# Altium integrated library TI Data Converters Analog to Digital Converter.IntLib: 2197 symbols (part 55 of 168)
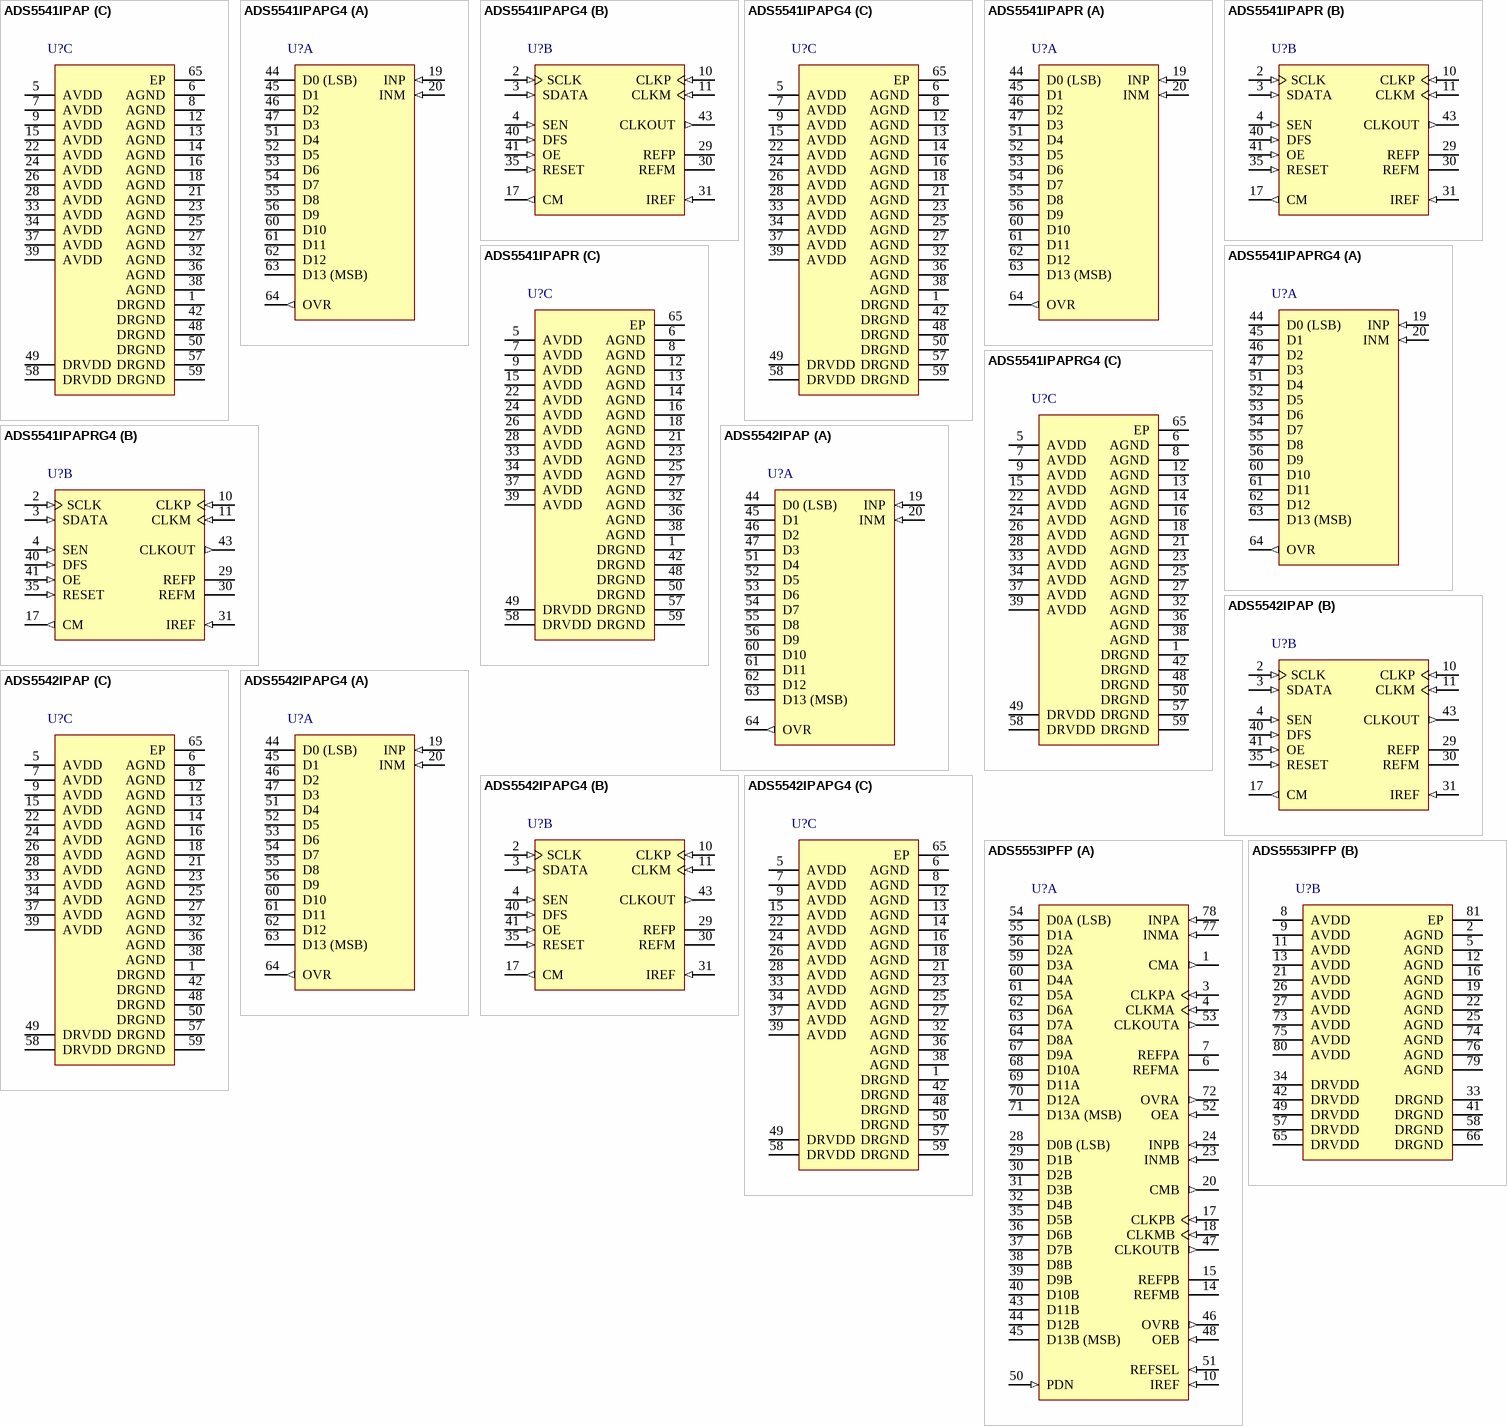
[diagram p180: symbols ADS5541IPAP to ADS5553IPFP]

## ADS5541IPAPG4
designator U?
14-Bit, 105 MSPS ADC, -40 to 85 degC, 64-pin QFP (PAP64), Green (RoHS & no Sb/Br); Manufacturer: Texas Instruments; PartNumber: ADS5541IPAPG4; # Input Channels: 1; Analog Voltage AV/DD(Max)(V): 3.6; Analog Voltage AV/DD(Min)(V): 3; Architecture: Pipeline; ENOB(Bits): 11.7; INL(Max)(+/-LSB): 5; Interface: Parallel CMOS, Serial SPI Interface; Resolution(Bits): 14; Sample Rate (max)(SPS): 105M; SFDR(dB): 86; SINAD(dB): 72; SNR(dB): 72.7; SubFamily: High Speed ADC (>10MSPS); DatasheetVersion: SBAS307C; PackageVersion: 4147702/C, 08/2003; PackageReference: PAP64-3825X3825TP; PackageDescription: 64-Pin PowerPAD(TM) Plastic Quad Flatpack, Body 10 x 10 mm, Pitch 0.5 mm; Supplier 1: Digi-Key; Supplier Part Number 1: 296-17355-2-ND; Supplier 2: Digi-Key; Supplier Part Number 2: 296-17355-1-ND; Supplier 3: Newark; Supplier Part Number 3: 43J1571; Supplier 4: Mouser; Supplier Part Number 4: 595-ADS8406IBPFBT; Digital Supply(Max)(V): 3.6; Digital Supply(Min)(V): 3; Eco-Plan: Green (RoHS & no Sb/Br); Mounting Technology: Surface Mount; Code_JEDEC: MS-026; ComponentLink1Description: Manufacturer URL; ComponentLink1URL: http://www.ti.com/; ComponentLink2Description: Datasheet; ComponentLink2URL: http://www.ti.com/general/docs/lit/getliterature.tsp?genericPartNumber=ADS5541&fileType=pdf; ComponentLink3Description: Package Specification; ComponentLink3URL: http://www.ti.com/lit/ml/mpqf071b/mpqf071b.pdf
footprint TI-PAP64-3825X3825TP_N (QFP, 64-Leads, Body 10x10mm, Pitch 0.5mm, Thermal Pad 4.15x4.15 mm, IPC Medium Density)
footprint TI-PAP64-3825X3825TP_L (QFP, 64-Leads, Body 10x10mm, Pitch 0.5mm, Thermal Pad 4.15x4.15mm, IPC High Density)
footprint TI-PAP64-3825X3825TP_M (QFP, 64-Leads, Body 10x10mm, Pitch 0.5mm, Thermal Pad 4.15x4.15mm, IPC Low Density)
part A pins: 19 INP (in) "Differential analog input (positive)", 20 INM (in) "Differential analog input (negative)", 44 D0 (LSB) (hiz) "Parallel data output", 45 D1 (hiz) "Parallel data output", 46 D2 (hiz) "Parallel data output", 47 D3 (hiz) "Parallel data output", 51 D4 (hiz) "Parallel data output", 52 D5 (hiz) "Parallel data output", 53 D6 (hiz) "Parallel data output", 54 D7 (hiz) "Parallel data output", 55 D8 (hiz) "Parallel data output", 56 D9 (hiz) "Parallel data output", 60 D10 (hiz) "Parallel data output", 61 D11 (hiz) "Parallel data output", 62 D12 (hiz) "Parallel data output", 63 D13 (MSB) (hiz) "Parallel data output", 64 OVR (out) "Over-range indicator bit"
part B pins: 2 SCLK (in) "Serial interface clock", 3 SDATA (in) "Serial interface data", 4 SEN (in) "Serial interface chip select", 10 CLKP (in) "Data converter differential input clock (positive)", 11 CLKM (in) "Data converter differential input clock (negative)", 17 CM (out) "Common-mode output voltage", 29 REFP "Reference voltage (positive); 1-uF capacitor in series with a 1-ohm resistor to GND", 30 REFM "Reference voltage (negative); 1-uF capacitor in series with a 1-ohm resistor to GND", 31 IREF (in) "Current set; 56-kohm resistor to GND; do not connect capacitors", 35 RESET (in) "Reset (active high), 200-kohm resistor to AVDD", 40 DFS (in) "Data format and clock out polarity select", 41 OE (in) "Output enable (active high)", 43 CLKOUT (out) "CMOS clock out in sync with data"
part C pins: 1 DRGND (power) "Output driver ground", 5 AVDD (power) "Analog power supply", 6 AGND (power) "Analog ground", 7 AVDD (power) "Analog power supply", 8 AGND (power) "Analog ground", 9 AVDD (power) "Analog power supply", 12 AGND (power) "Analog ground", 13 AGND (power) "Analog ground", 14 AGND (power) "Analog ground", 15 AVDD (power) "Analog power supply", 16 AGND (power) "Analog ground", 18 AGND (power) "Analog ground", 21 AGND (power) "Analog ground", 22 AVDD (power) "Analog power supply", 23 AGND (power) "Analog ground", 24 AVDD (power) "Analog power supply", 25 AGND (power) "Analog ground", 26 AVDD (power) "Analog power supply", 27 AGND (power) "Analog ground", 28 AVDD (power) "Analog power supply", 32 AGND (power) "Analog ground", 33 AVDD (power) "Analog power supply", 34 AVDD (power) "Analog power supply", 36 AGND (power) "Analog ground", 37 AVDD (power) "Analog power supply", 38 AGND (power) "Analog ground", 39 AVDD (power) "Analog power supply", 42 DRGND (power) "Output driver ground", 48 DRGND (power) "Output driver ground", 49 DRVDD (power) "Output driver power supply", 50 DRGND (power) "Output driver ground", 57 DRGND (power) "Output driver ground", 58 DRVDD (power) "Output driver power supply", 59 DRGND (power) "Output driver ground", 65 EP (power) "Connected to Analog Ground"

## ADS5541IPAPR
designator U?
14-Bit, 105 MSPS ADC, -40 to 85 degC, 64-pin QFP (PAP64), Green (RoHS & no Sb/Br); Manufacturer: Texas Instruments; PartNumber: ADS5541IPAPR; # Input Channels: 1; Analog Voltage AV/DD(Max)(V): 3.6; Analog Voltage AV/DD(Min)(V): 3; Architecture: Pipeline; ENOB(Bits): 11.7; INL(Max)(+/-LSB): 5; Interface: Parallel CMOS, Serial SPI Interface; Resolution(Bits): 14; Sample Rate (max)(SPS): 105M; SFDR(dB): 86; SINAD(dB): 72; SNR(dB): 72.7; SubFamily: High Speed ADC (>10MSPS); DatasheetVersion: SBAS307C; PackageVersion: 4147702/C, 08/2003; PackageReference: PAP64-3825X3825TP; PackageDescription: 64-Pin PowerPAD(TM) Plastic Quad Flatpack, Body 10 x 10 mm, Pitch 0.5 mm; Supplier 1: Digi-Key; Supplier Part Number 1: ADS8406IBPFBTG4-ND; Supplier 2: Newark; Supplier Part Number 2: 73K7096; Supplier 3: Mouser; Supplier Part Number 3: 595-ADS8406IBPFBTG4; Digital Supply(Max)(V): 3.6; Digital Supply(Min)(V): 3; Eco-Plan: Green (RoHS & no Sb/Br); Mounting Technology: Surface Mount; Code_JEDEC: MS-026; ComponentLink1Description: Manufacturer URL; ComponentLink1URL: http://www.ti.com/; ComponentLink2Description: Datasheet; ComponentLink2URL: http://www.ti.com/general/docs/lit/getliterature.tsp?genericPartNumber=ADS5541&fileType=pdf; ComponentLink3Description: Package Specification; ComponentLink3URL: http://www.ti.com/lit/ml/mpqf071b/mpqf071b.pdf
footprint TI-PAP64-3825X3825TP_N (QFP, 64-Leads, Body 10x10mm, Pitch 0.5mm, Thermal Pad 4.15x4.15 mm, IPC Medium Density)
footprint TI-PAP64-3825X3825TP_L (QFP, 64-Leads, Body 10x10mm, Pitch 0.5mm, Thermal Pad 4.15x4.15mm, IPC High Density)
footprint TI-PAP64-3825X3825TP_M (QFP, 64-Leads, Body 10x10mm, Pitch 0.5mm, Thermal Pad 4.15x4.15mm, IPC Low Density)
part A pins: 19 INP (in) "Differential analog input (positive)", 20 INM (in) "Differential analog input (negative)", 44 D0 (LSB) (hiz) "Parallel data output", 45 D1 (hiz) "Parallel data output", 46 D2 (hiz) "Parallel data output", 47 D3 (hiz) "Parallel data output", 51 D4 (hiz) "Parallel data output", 52 D5 (hiz) "Parallel data output", 53 D6 (hiz) "Parallel data output", 54 D7 (hiz) "Parallel data output", 55 D8 (hiz) "Parallel data output", 56 D9 (hiz) "Parallel data output", 60 D10 (hiz) "Parallel data output", 61 D11 (hiz) "Parallel data output", 62 D12 (hiz) "Parallel data output", 63 D13 (MSB) (hiz) "Parallel data output", 64 OVR (out) "Over-range indicator bit"
part B pins: 2 SCLK (in) "Serial interface clock", 3 SDATA (in) "Serial interface data", 4 SEN (in) "Serial interface chip select", 10 CLKP (in) "Data converter differential input clock (positive)", 11 CLKM (in) "Data converter differential input clock (negative)", 17 CM (out) "Common-mode output voltage", 29 REFP "Reference voltage (positive); 1-uF capacitor in series with a 1-ohm resistor to GND", 30 REFM "Reference voltage (negative); 1-uF capacitor in series with a 1-ohm resistor to GND", 31 IREF (in) "Current set; 56-kohm resistor to GND; do not connect capacitors", 35 RESET (in) "Reset (active high), 200-kohm resistor to AVDD", 40 DFS (in) "Data format and clock out polarity select", 41 OE (in) "Output enable (active high)", 43 CLKOUT (out) "CMOS clock out in sync with data"
part C pins: 1 DRGND (power) "Output driver ground", 5 AVDD (power) "Analog power supply", 6 AGND (power) "Analog ground", 7 AVDD (power) "Analog power supply", 8 AGND (power) "Analog ground", 9 AVDD (power) "Analog power supply", 12 AGND (power) "Analog ground", 13 AGND (power) "Analog ground", 14 AGND (power) "Analog ground", 15 AVDD (power) "Analog power supply", 16 AGND (power) "Analog ground", 18 AGND (power) "Analog ground", 21 AGND (power) "Analog ground", 22 AVDD (power) "Analog power supply", 23 AGND (power) "Analog ground", 24 AVDD (power) "Analog power supply", 25 AGND (power) "Analog ground", 26 AVDD (power) "Analog power supply", 27 AGND (power) "Analog ground", 28 AVDD (power) "Analog power supply", 32 AGND (power) "Analog ground", 33 AVDD (power) "Analog power supply", 34 AVDD (power) "Analog power supply", 36 AGND (power) "Analog ground", 37 AVDD (power) "Analog power supply", 38 AGND (power) "Analog ground", 39 AVDD (power) "Analog power supply", 42 DRGND (power) "Output driver ground", 48 DRGND (power) "Output driver ground", 49 DRVDD (power) "Output driver power supply", 50 DRGND (power) "Output driver ground", 57 DRGND (power) "Output driver ground", 58 DRVDD (power) "Output driver power supply", 59 DRGND (power) "Output driver ground", 65 EP (power) "Connected to Analog Ground"

## ADS5541IPAPRG4
designator U?
14-Bit, 105 MSPS ADC, -40 to 85 degC, 64-pin QFP (PAP64), Green (RoHS & no Sb/Br); Manufacturer: Texas Instruments; PartNumber: ADS5541IPAPRG4; # Input Channels: 1; Analog Voltage AV/DD(Max)(V): 3.6; Analog Voltage AV/DD(Min)(V): 3; Architecture: Pipeline; ENOB(Bits): 11.7; INL(Max)(+/-LSB): 5; Interface: Parallel CMOS, Serial SPI Interface; Resolution(Bits): 14; Sample Rate (max)(SPS): 105M; SFDR(dB): 86; SINAD(dB): 72; SNR(dB): 72.7; SubFamily: High Speed ADC (>10MSPS); DatasheetVersion: SBAS307C; PackageVersion: 4147702/C, 08/2003; PackageReference: PAP64-3825X3825TP; PackageDescription: 64-Pin PowerPAD(TM) Plastic Quad Flatpack, Body 10 x 10 mm, Pitch 0.5 mm; Supplier 1: Digi-Key; Supplier Part Number 1: 296-17356-ND; Supplier 2: Mouser; Supplier Part Number 2: 595-ADS8406IPFBT; Digital Supply(Max)(V): 3.6; Digital Supply(Min)(V): 3; Eco-Plan: Green (RoHS & no Sb/Br); Mounting Technology: Surface Mount; Code_JEDEC: MS-026; ComponentLink1Description: Manufacturer URL; ComponentLink1URL: http://www.ti.com/; ComponentLink2Description: Datasheet; ComponentLink2URL: http://www.ti.com/general/docs/lit/getliterature.tsp?genericPartNumber=ADS5541&fileType=pdf; ComponentLink3Description: Package Specification; ComponentLink3URL: http://www.ti.com/lit/ml/mpqf071b/mpqf071b.pdf
footprint TI-PAP64-3825X3825TP_N (QFP, 64-Leads, Body 10x10mm, Pitch 0.5mm, Thermal Pad 4.15x4.15 mm, IPC Medium Density)
footprint TI-PAP64-3825X3825TP_L (QFP, 64-Leads, Body 10x10mm, Pitch 0.5mm, Thermal Pad 4.15x4.15mm, IPC High Density)
footprint TI-PAP64-3825X3825TP_M (QFP, 64-Leads, Body 10x10mm, Pitch 0.5mm, Thermal Pad 4.15x4.15mm, IPC Low Density)
part A pins: 19 INP (in) "Differential analog input (positive)", 20 INM (in) "Differential analog input (negative)", 44 D0 (LSB) (hiz) "Parallel data output", 45 D1 (hiz) "Parallel data output", 46 D2 (hiz) "Parallel data output", 47 D3 (hiz) "Parallel data output", 51 D4 (hiz) "Parallel data output", 52 D5 (hiz) "Parallel data output", 53 D6 (hiz) "Parallel data output", 54 D7 (hiz) "Parallel data output", 55 D8 (hiz) "Parallel data output", 56 D9 (hiz) "Parallel data output", 60 D10 (hiz) "Parallel data output", 61 D11 (hiz) "Parallel data output", 62 D12 (hiz) "Parallel data output", 63 D13 (MSB) (hiz) "Parallel data output", 64 OVR (out) "Over-range indicator bit"
part B pins: 2 SCLK (in) "Serial interface clock", 3 SDATA (in) "Serial interface data", 4 SEN (in) "Serial interface chip select", 10 CLKP (in) "Data converter differential input clock (positive)", 11 CLKM (in) "Data converter differential input clock (negative)", 17 CM (out) "Common-mode output voltage", 29 REFP "Reference voltage (positive); 1-uF capacitor in series with a 1-ohm resistor to GND", 30 REFM "Reference voltage (negative); 1-uF capacitor in series with a 1-ohm resistor to GND", 31 IREF (in) "Current set; 56-kohm resistor to GND; do not connect capacitors", 35 RESET (in) "Reset (active high), 200-kohm resistor to AVDD", 40 DFS (in) "Data format and clock out polarity select", 41 OE (in) "Output enable (active high)", 43 CLKOUT (out) "CMOS clock out in sync with data"
part C pins: 1 DRGND (power) "Output driver ground", 5 AVDD (power) "Analog power supply", 6 AGND (power) "Analog ground", 7 AVDD (power) "Analog power supply", 8 AGND (power) "Analog ground", 9 AVDD (power) "Analog power supply", 12 AGND (power) "Analog ground", 13 AGND (power) "Analog ground", 14 AGND (power) "Analog ground", 15 AVDD (power) "Analog power supply", 16 AGND (power) "Analog ground", 18 AGND (power) "Analog ground", 21 AGND (power) "Analog ground", 22 AVDD (power) "Analog power supply", 23 AGND (power) "Analog ground", 24 AVDD (power) "Analog power supply", 25 AGND (power) "Analog ground", 26 AVDD (power) "Analog power supply", 27 AGND (power) "Analog ground", 28 AVDD (power) "Analog power supply", 32 AGND (power) "Analog ground", 33 AVDD (power) "Analog power supply", 34 AVDD (power) "Analog power supply", 36 AGND (power) "Analog ground", 37 AVDD (power) "Analog power supply", 38 AGND (power) "Analog ground", 39 AVDD (power) "Analog power supply", 42 DRGND (power) "Output driver ground", 48 DRGND (power) "Output driver ground", 49 DRVDD (power) "Output driver power supply", 50 DRGND (power) "Output driver ground", 57 DRGND (power) "Output driver ground", 58 DRVDD (power) "Output driver power supply", 59 DRGND (power) "Output driver ground", 65 EP (power) "Connected to Analog Ground"

## ADS5542IPAP
designator U?
14-Bit, 80 MSPS ADC, -40 to 85 degC, 64-pin QFP (PAP64), Green (RoHS & no Sb/Br); Manufacturer: Texas Instruments; PartNumber: ADS5542IPAP; # Input Channels: 1; Analog Voltage AV/DD(Max)(V): 3.6; Analog Voltage AV/DD(Min)(V): 3; Architecture: Pipeline; ENOB(Bits): 11.9; INL(Max)(+/-LSB): 5; Interface: Parallel CMOS, Serial SPI Interface; Resolution(Bits): 14; Sample Rate (max)(SPS): 80M; SFDR(dB): 87; SINAD(dB): 73.2; SNR(dB): 73.5; SubFamily: High Speed ADC (>10MSPS); DatasheetVersion: SBAS308D; PackageVersion: 4147702/C, 08/2003; PackageReference: PAP64-3825X3825TP; PackageDescription: 64-Pin PowerPAD(TM) Plastic Quad Flatpack, Body 10 x 10 mm, Pitch 0.5 mm; Supplier 1: Digi-Key; Supplier Part Number 1: ADS8406IPFBTG4-ND; Supplier 2: Mouser; Supplier Part Number 2: 595-ADS8406IPFBTG4; Digital Supply(Max)(V): 3.6; Digital Supply(Min)(V): 3; Eco-Plan: Green (RoHS & no Sb/Br); Mounting Technology: Surface Mount; Code_JEDEC: MS-026; ComponentLink1Description: Manufacturer URL; ComponentLink1URL: http://www.ti.com/; ComponentLink2Description: Datasheet; ComponentLink2URL: http://www.ti.com/general/docs/lit/getliterature.tsp?genericPartNumber=ADS5542&fileType=pdf; ComponentLink3Description: Package Specification; ComponentLink3URL: http://www.ti.com/lit/ml/mpqf071b/mpqf071b.pdf
footprint TI-PAP64-3825X3825TP_N (QFP, 64-Leads, Body 10x10mm, Pitch 0.5mm, Thermal Pad 4.15x4.15 mm, IPC Medium Density)
footprint TI-PAP64-3825X3825TP_L (QFP, 64-Leads, Body 10x10mm, Pitch 0.5mm, Thermal Pad 4.15x4.15mm, IPC High Density)
footprint TI-PAP64-3825X3825TP_M (QFP, 64-Leads, Body 10x10mm, Pitch 0.5mm, Thermal Pad 4.15x4.15mm, IPC Low Density)
part A pins: 19 INP (in) "Differential analog input (positive)", 20 INM (in) "Differential analog input (negative)", 44 D0 (LSB) (hiz) "Parallel data output", 45 D1 (hiz) "Parallel data output", 46 D2 (hiz) "Parallel data output", 47 D3 (hiz) "Parallel data output", 51 D4 (hiz) "Parallel data output", 52 D5 (hiz) "Parallel data output", 53 D6 (hiz) "Parallel data output", 54 D7 (hiz) "Parallel data output", 55 D8 (hiz) "Parallel data output", 56 D9 (hiz) "Parallel data output", 60 D10 (hiz) "Parallel data output", 61 D11 (hiz) "Parallel data output", 62 D12 (hiz) "Parallel data output", 63 D13 (MSB) (hiz) "Parallel data output", 64 OVR (out) "Over-range indicator bit"
part B pins: 2 SCLK (in) "Serial interface clock", 3 SDATA (in) "Serial interface data", 4 SEN (in) "Serial interface chip select", 10 CLKP (in) "Data converter differential input clock (positive)", 11 CLKM (in) "Data converter differential input clock (negative)", 17 CM (out) "Common-mode output voltage", 29 REFP "Reference voltage (positive); 1-uF capacitor in series with a 1-ohm resistor to GND", 30 REFM "Reference voltage (negative); 1-uF capacitor in series with a 1-ohm resistor to GND", 31 IREF (in) "Current set; 56-kohm resistor to GND; do not connect capacitors", 35 RESET (in) "Reset (active high), 200-kohm resistor to AVDD", 40 DFS (in) "Data format and clock out polarity select", 41 OE (in) "Output enable (active high)", 43 CLKOUT (out) "CMOS clock out in sync with data"
part C pins: 1 DRGND (power) "Output driver ground", 5 AVDD (power) "Analog power supply", 6 AGND (power) "Analog ground", 7 AVDD (power) "Analog power supply", 8 AGND (power) "Analog ground", 9 AVDD (power) "Analog power supply", 12 AGND (power) "Analog ground", 13 AGND (power) "Analog ground", 14 AGND (power) "Analog ground", 15 AVDD (power) "Analog power supply", 16 AGND (power) "Analog ground", 18 AGND (power) "Analog ground", 21 AGND (power) "Analog ground", 22 AVDD (power) "Analog power supply", 23 AGND (power) "Analog ground", 24 AVDD (power) "Analog power supply", 25 AGND (power) "Analog ground", 26 AVDD (power) "Analog power supply", 27 AGND (power) "Analog ground", 28 AVDD (power) "Analog power supply", 32 AGND (power) "Analog ground", 33 AVDD (power) "Analog power supply", 34 AVDD (power) "Analog power supply", 36 AGND (power) "Analog ground", 37 AVDD (power) "Analog power supply", 38 AGND (power) "Analog ground", 39 AVDD (power) "Analog power supply", 42 DRGND (power) "Output driver ground", 48 DRGND (power) "Output driver ground", 49 DRVDD (power) "Output driver power supply", 50 DRGND (power) "Output driver ground", 57 DRGND (power) "Output driver ground", 58 DRVDD (power) "Output driver power supply", 59 DRGND (power) "Output driver ground", 65 EP (power) "Connected to Analog Ground"

## ADS5542IPAPG4
designator U?
14-Bit, 80 MSPS ADC, -40 to 85 degC, 64-pin QFP (PAP64), Green (RoHS & no Sb/Br); Manufacturer: Texas Instruments; PartNumber: ADS5542IPAPG4; # Input Channels: 1; Analog Voltage AV/DD(Max)(V): 3.6; Analog Voltage AV/DD(Min)(V): 3; Architecture: Pipeline; ENOB(Bits): 11.9; INL(Max)(+/-LSB): 5; Interface: Parallel CMOS, Serial SPI Interface; Resolution(Bits): 14; Sample Rate (max)(SPS): 80M; SFDR(dB): 87; SINAD(dB): 73.2; SNR(dB): 73.5; SubFamily: High Speed ADC (>10MSPS); DatasheetVersion: SBAS308D; PackageVersion: 4147702/C, 08/2003; PackageReference: PAP64-3825X3825TP; PackageDescription: 64-Pin PowerPAD(TM) Plastic Quad Flatpack, Body 10 x 10 mm, Pitch 0.5 mm; Supplier 1: Digi-Key; Supplier Part Number 1: ADS7891IPFBR-ND; Supplier 2: Mouser; Supplier Part Number 2: 595-ADS7891IPFBR; Digital Supply(Max)(V): 3.6; Digital Supply(Min)(V): 3; Eco-Plan: Green (RoHS & no Sb/Br); Mounting Technology: Surface Mount; Code_JEDEC: MS-026; ComponentLink1Description: Manufacturer URL; ComponentLink1URL: http://www.ti.com/; ComponentLink2Description: Datasheet; ComponentLink2URL: http://www.ti.com/general/docs/lit/getliterature.tsp?genericPartNumber=ADS5542&fileType=pdf; ComponentLink3Description: Package Specification; ComponentLink3URL: http://www.ti.com/lit/ml/mpqf071b/mpqf071b.pdf
footprint TI-PAP64-3825X3825TP_N (QFP, 64-Leads, Body 10x10mm, Pitch 0.5mm, Thermal Pad 4.15x4.15 mm, IPC Medium Density)
footprint TI-PAP64-3825X3825TP_L (QFP, 64-Leads, Body 10x10mm, Pitch 0.5mm, Thermal Pad 4.15x4.15mm, IPC High Density)
footprint TI-PAP64-3825X3825TP_M (QFP, 64-Leads, Body 10x10mm, Pitch 0.5mm, Thermal Pad 4.15x4.15mm, IPC Low Density)
part A pins: 19 INP (in) "Differential analog input (positive)", 20 INM (in) "Differential analog input (negative)", 44 D0 (LSB) (hiz) "Parallel data output", 45 D1 (hiz) "Parallel data output", 46 D2 (hiz) "Parallel data output", 47 D3 (hiz) "Parallel data output", 51 D4 (hiz) "Parallel data output", 52 D5 (hiz) "Parallel data output", 53 D6 (hiz) "Parallel data output", 54 D7 (hiz) "Parallel data output", 55 D8 (hiz) "Parallel data output", 56 D9 (hiz) "Parallel data output", 60 D10 (hiz) "Parallel data output", 61 D11 (hiz) "Parallel data output", 62 D12 (hiz) "Parallel data output", 63 D13 (MSB) (hiz) "Parallel data output", 64 OVR (out) "Over-range indicator bit"
part B pins: 2 SCLK (in) "Serial interface clock", 3 SDATA (in) "Serial interface data", 4 SEN (in) "Serial interface chip select", 10 CLKP (in) "Data converter differential input clock (positive)", 11 CLKM (in) "Data converter differential input clock (negative)", 17 CM (out) "Common-mode output voltage", 29 REFP "Reference voltage (positive); 1-uF capacitor in series with a 1-ohm resistor to GND", 30 REFM "Reference voltage (negative); 1-uF capacitor in series with a 1-ohm resistor to GND", 31 IREF (in) "Current set; 56-kohm resistor to GND; do not connect capacitors", 35 RESET (in) "Reset (active high), 200-kohm resistor to AVDD", 40 DFS (in) "Data format and clock out polarity select", 41 OE (in) "Output enable (active high)", 43 CLKOUT (out) "CMOS clock out in sync with data"
part C pins: 1 DRGND (power) "Output driver ground", 5 AVDD (power) "Analog power supply", 6 AGND (power) "Analog ground", 7 AVDD (power) "Analog power supply", 8 AGND (power) "Analog ground", 9 AVDD (power) "Analog power supply", 12 AGND (power) "Analog ground", 13 AGND (power) "Analog ground", 14 AGND (power) "Analog ground", 15 AVDD (power) "Analog power supply", 16 AGND (power) "Analog ground", 18 AGND (power) "Analog ground", 21 AGND (power) "Analog ground", 22 AVDD (power) "Analog power supply", 23 AGND (power) "Analog ground", 24 AVDD (power) "Analog power supply", 25 AGND (power) "Analog ground", 26 AVDD (power) "Analog power supply", 27 AGND (power) "Analog ground", 28 AVDD (power) "Analog power supply", 32 AGND (power) "Analog ground", 33 AVDD (power) "Analog power supply", 34 AVDD (power) "Analog power supply", 36 AGND (power) "Analog ground", 37 AVDD (power) "Analog power supply", 38 AGND (power) "Analog ground", 39 AVDD (power) "Analog power supply", 42 DRGND (power) "Output driver ground", 48 DRGND (power) "Output driver ground", 49 DRVDD (power) "Output driver power supply", 50 DRGND (power) "Output driver ground", 57 DRGND (power) "Output driver ground", 58 DRVDD (power) "Output driver power supply", 59 DRGND (power) "Output driver ground", 65 EP (power) "Connected to Analog Ground"

## ADS5553IPFP
designator U?
Dual-Channel 14-Bit, 65 MSPS ADC, -40 to 85 degC, 80-pin QFP (PFP80), Green (RoHS & no Sb/Br); Manufacturer: Texas Instruments; PartNumber: ADS5553IPFP; # Input Channels: 2; Analog Voltage AV/DD(Max)(V): 3.6; Analog Voltage AV/DD(Min)(V): 3; Architecture: Pipeline; ENOB(Bits): 11.9; INL(Max)(+/-LSB): 4; Interface: Parallel CMOS, Serial SPI Interface; Resolution(Bits): 14; Sample Rate (max)(SPS): 65M; SFDR(dB): 84; SINAD(dB): 73.4; SNR(dB): 74; SubFamily: High Speed ADC (>10MSPS); DatasheetVersion: SLWS158; PackageVersion: 4146925/C, 07/2011; PackageReference: PFP80-6825X6825TP; PackageDescription: 80-Pin PowerPAD(TM) Plastic Quad Flatpack, Body 12 x 12 mm, Pitch 0.5 mm; Supplier 1: Digi-Key; Supplier Part Number 1: ADS7891IPFBRG4-ND; Supplier 2: Mouser; Supplier Part Number 2: 595-ADS7891IPFBRG4; Digital Supply(Max)(V): 3.6; Digital Supply(Min)(V): 3; Eco-Plan: Green (RoHS & no Sb/Br); Mounting Technology: Surface Mount; Code_JEDEC: MS-026; ComponentLink1Description: Manufacturer URL; ComponentLink1URL: http://www.ti.com/; ComponentLink2Description: Datasheet; ComponentLink2URL: http://www.ti.com/general/docs/lit/getliterature.tsp?genericPartNumber=ADS5553&fileType=pdf; ComponentLink3Description: Package Specification; ComponentLink3URL: http://www.ti.com/litv/pdf/mpqf049b
footprint TI-PFP80-6825X6825TP_N (QFP, 80-Leads, Body 12x12mm, Pitch 0.5mm, Thermal Pad 7.5x7.5mm, IPC Medium Density)
footprint TI-PFP80-6825X6825TP_L (QFP, 80-Leads, Body 12x12mm, Pitch 0.5mm, Thermal Pad 7.5x7.5mm, IPC High Density)
footprint TI-PFP80-6825X6825TP_M (QFP, 80-Leads, Body 12x12mm, Pitch 0.5mm, Thermal Pad 7.5x7.5mm, IPC Low Density)
part A pins: 1 CMA (out) "Channel A common-mode output voltage", 3 CLKPA (in) "Channel A differential input clock (positive)", 4 CLKMA (in) "Channel A differential input clock (negative)", 6 REFMA "Channel A reference voltage (negative); 0.1 uF to GND", 7 REFPA "Channel A reference voltage (positive); 0.1 uF to GND", 10 IREF (in) "Current set, 56-kohm resistor to GND", 14 REFMB "Channel B reference voltage (negative); 0.1 uF to GND", 15 REFPB "Channel B reference voltage (positive); 0.1 uF to GND", 17 CLKPB (in) "Channel B differential input clock (positive)", 18 CLKMB (in) "Channel B differential input clock (negative)", 20 CMB (out) "Channel B common-mode output voltage", 23 INMB (in) "Channel B differential analog input (negative)", 24 INPB (in) "Channel B differential analog input (positive)", 28 D0B (LSB) (hiz) "Channel B parallel data", 29 D1B (hiz) "Channel B parallel data", 30 D2B (hiz) "Channel B parallel data", 31 D3B (hiz) "Channel B parallel data", 32 D4B (hiz) "Channel B parallel data", 35 D5B (hiz) "Channel B parallel data", 36 D6B (hiz) "Channel B parallel data", 37 D7B (hiz) "Channel B parallel data", 38 D8B (hiz) "Channel B parallel data", 39 D9B (hiz) "Channel B parallel data", 40 D10B (hiz) "Channel B parallel data", 43 D11B (hiz) "Channel B parallel data", 44 D12B (hiz) "Channel B parallel data", 45 D13B (MSB) (hiz) "Channel B parallel data", 46 OVRB (out) "Channel B over-range indicator bit", 47 CLKOUTB (out) "Channel B clock out in sync with data", 48 OEB (in) "Channel B output enable (active high)", 50 PDN (in) "Power down active high. See Table 2", 51 REFSEL (in) "Reference select. 1-EXT. REF; 0-INT. REF", 52 OEA (in) "Channel A output enable (active high)", 53 CLKOUTA (out) "Channel A clock out in sync with data", 54 D0A (LSB) (hiz) "Channel A parallel data", 55 D1A (hiz) "Channel A parallel data", 56 D2A (hiz) "Channel A parallel data", 59 D3A (hiz) "Channel A parallel data", 60 D4A (hiz) "Channel A parallel data", 61 D5A (hiz) "Channel A parallel data", 62 D6A (hiz) "Channel A parallel data", 63 D7A (hiz) "Channel A parallel data", 64 D8A (hiz) "Channel A parallel data", 67 D9A (hiz) "Channel A parallel data", 68 D10A (hiz) "Channel A parallel data", 69 D11A (hiz) "Channel A parallel data", 70 D12A (hiz) "Channel A parallel data", 71 D13A (MSB) (hiz) "Channel A parallel data", 72 OVRA (out) "Channel A over-range indicator bit", 77 INMA (in) "Channel A differential analog input (negative)", 78 INPA (in) "Channel A differential analog input (positive)"
part B pins: 2 AGND (power) "Analog ground", 5 AGND (power) "Analog ground", 8 AVDD (power) "Analog power supply", 9 AVDD (power) "Analog power supply", 11 AVDD (power) "Analog power supply", 12 AGND (power) "Analog ground", 13 AVDD (power) "Analog power supply", 16 AGND (power) "Analog ground", 19 AGND (power) "Analog ground", 21 AVDD (power) "Analog power supply", 22 AGND (power) "Analog ground", 25 AGND (power) "Analog ground", 26 AVDD (power) "Analog power supply", 27 AVDD (power) "Analog power supply", 33 DRGND (power) "Output driver ground", 34 DRVDD (power) "Output driver power supply", 41 DRGND (power) "Output driver ground", 42 DRVDD (power) "Output driver power supply", 49 DRVDD (power) "Output driver power supply", 57 DRVDD (power) "Output driver power supply", 58 DRGND (power) "Output driver ground", 65 DRVDD (power) "Output driver power supply", 66 DRGND (power) "Output driver ground", 73 AVDD (power) "Analog power supply", 74 AGND (power) "Analog ground", 75 AVDD (power) "Analog power supply", 76 AGND (power) "Analog ground", 79 AGND (power) "Analog ground", 80 AVDD (power) "Analog power supply", 81 EP

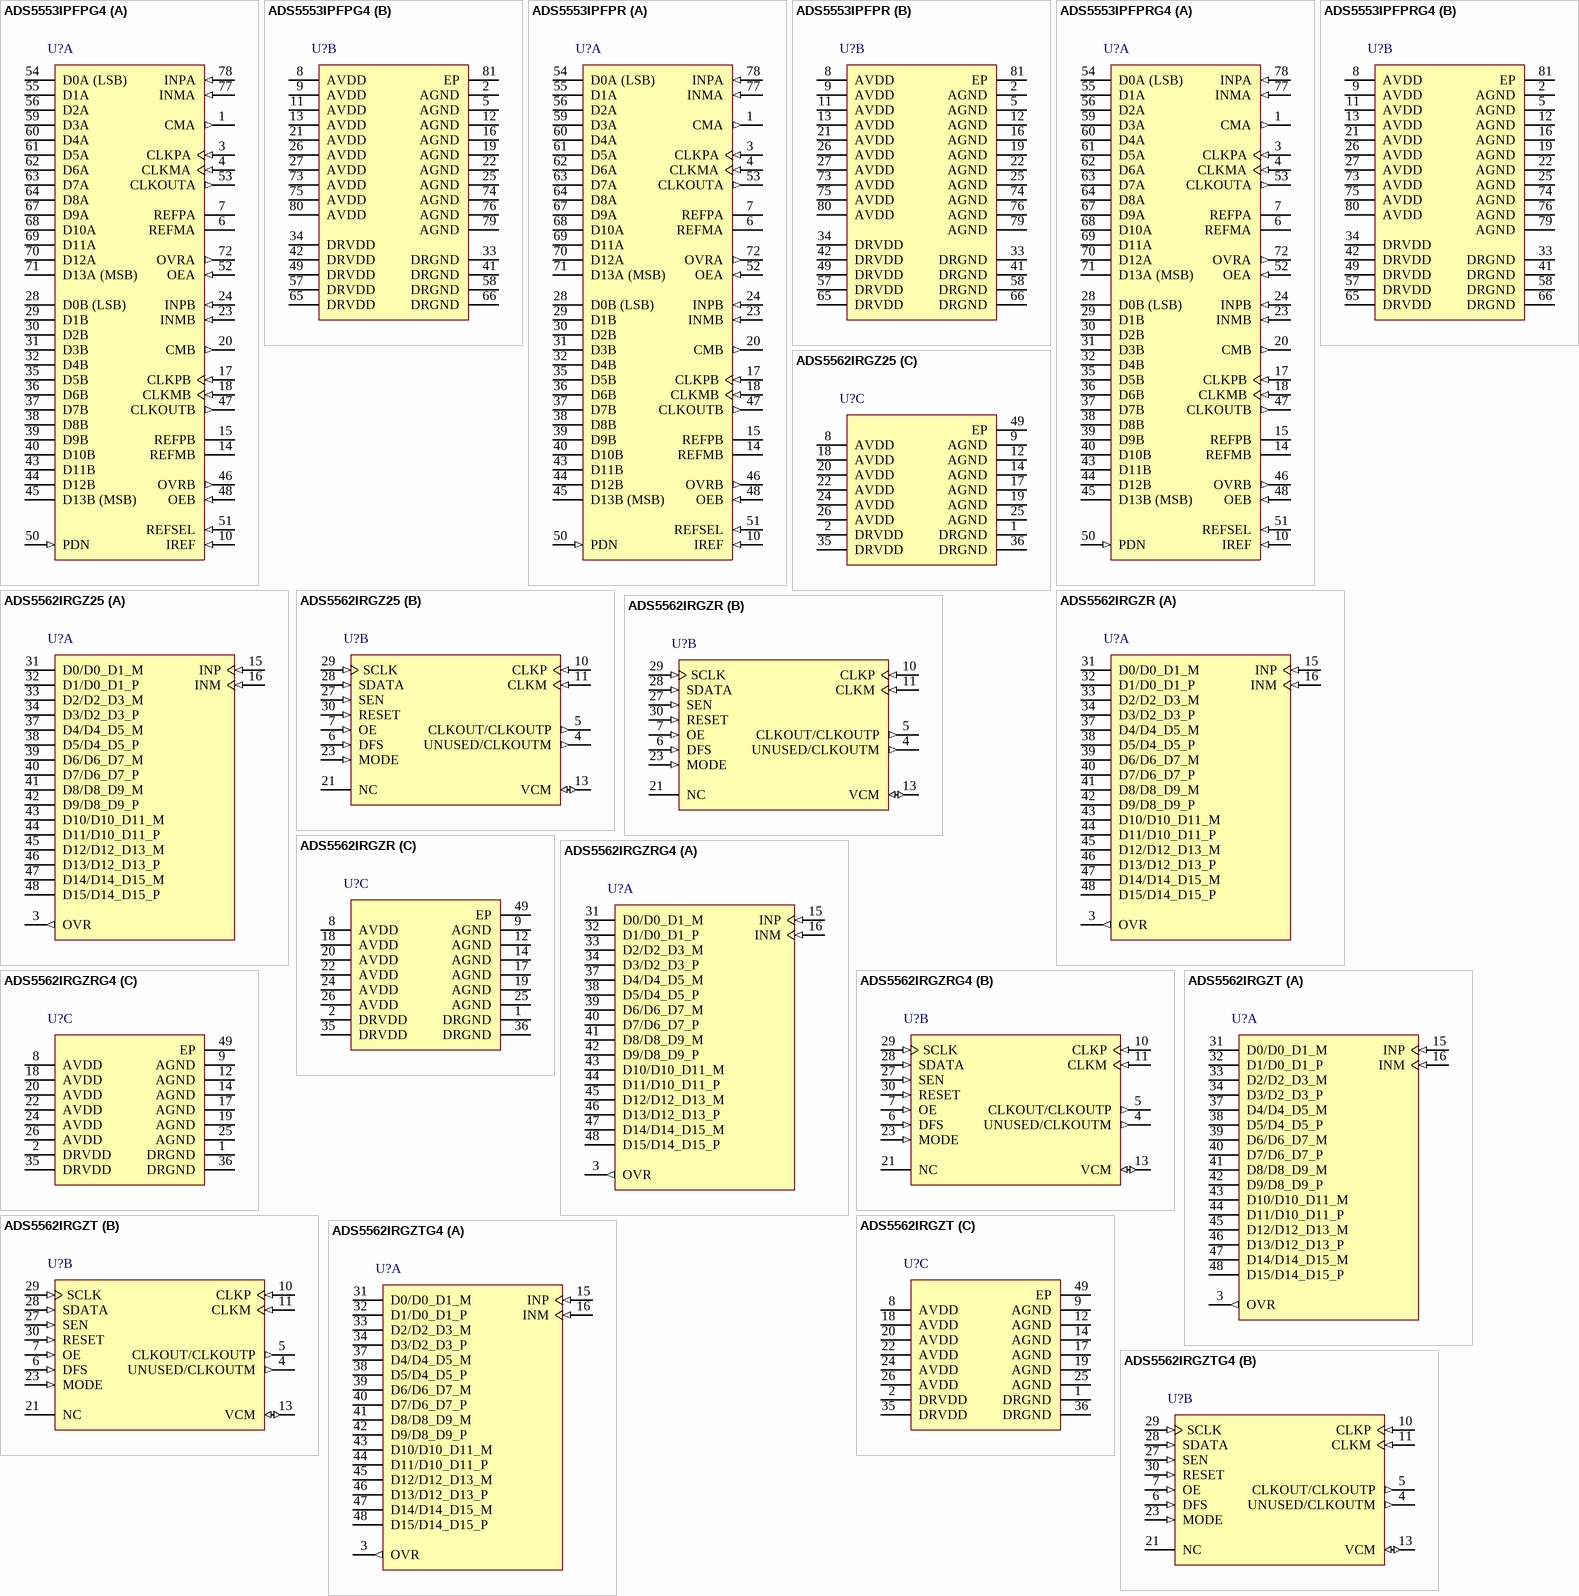
[diagram p54: symbols ADS5553IPFPG4 to ADS5562IRGZTG4]

## ADS5553IPFPG4
designator U?
Dual-Channel 14-Bit, 65 MSPS ADC, -40 to 85 degC, 80-pin QFP (PFP80), Green (RoHS & no Sb/Br); Manufacturer: Texas Instruments; PartNumber: ADS5553IPFPG4; # Input Channels: 2; Analog Voltage AV/DD(Max)(V): 3.6; Analog Voltage AV/DD(Min)(V): 3; Architecture: Pipeline; ENOB(Bits): 11.9; INL(Max)(+/-LSB): 4; Interface: Parallel CMOS, Serial SPI Interface; Resolution(Bits): 14; Sample Rate (max)(SPS): 65M; SFDR(dB): 84; SINAD(dB): 73.4; SNR(dB): 74; SubFamily: High Speed ADC (>10MSPS); DatasheetVersion: SLWS158; PackageVersion: 4146925/C, 07/2011; PackageReference: PFP80-6825X6825TP; PackageDescription: 80-Pin PowerPAD(TM) Plastic Quad Flatpack, Body 12 x 12 mm, Pitch 0.5 mm; Supplier 1: Digi-Key; Supplier Part Number 1: 296-16682-2-ND; Supplier 2: Digi-Key; Supplier Part Number 2: 296-16682-1-ND; Supplier 3: Digi-Key; Supplier Part Number 3: 296-16682-6-ND; Supplier 4: Mouser; Supplier Part Number 4: 595-ADS7891IPFBT; Digital Supply(Max)(V): 3.6; Digital Supply(Min)(V): 3; Eco-Plan: Green (RoHS & no Sb/Br); Mounting Technology: Surface Mount; Code_JEDEC: MS-026; ComponentLink1Description: Manufacturer URL; ComponentLink1URL: http://www.ti.com/; ComponentLink2Description: Datasheet; ComponentLink2URL: http://www.ti.com/general/docs/lit/getliterature.tsp?genericPartNumber=ADS5553&fileType=pdf; ComponentLink3Description: Package Specification; ComponentLink3URL: http://www.ti.com/litv/pdf/mpqf049b
footprint TI-PFP80-6825X6825TP_N (QFP, 80-Leads, Body 12x12mm, Pitch 0.5mm, Thermal Pad 7.5x7.5mm, IPC Medium Density)
footprint TI-PFP80-6825X6825TP_L (QFP, 80-Leads, Body 12x12mm, Pitch 0.5mm, Thermal Pad 7.5x7.5mm, IPC High Density)
footprint TI-PFP80-6825X6825TP_M (QFP, 80-Leads, Body 12x12mm, Pitch 0.5mm, Thermal Pad 7.5x7.5mm, IPC Low Density)
part A pins: 1 CMA (out) "Channel A common-mode output voltage", 3 CLKPA (in) "Channel A differential input clock (positive)", 4 CLKMA (in) "Channel A differential input clock (negative)", 6 REFMA "Channel A reference voltage (negative); 0.1 uF to GND", 7 REFPA "Channel A reference voltage (positive); 0.1 uF to GND", 10 IREF (in) "Current set, 56-kohm resistor to GND", 14 REFMB "Channel B reference voltage (negative); 0.1 uF to GND", 15 REFPB "Channel B reference voltage (positive); 0.1 uF to GND", 17 CLKPB (in) "Channel B differential input clock (positive)", 18 CLKMB (in) "Channel B differential input clock (negative)", 20 CMB (out) "Channel B common-mode output voltage", 23 INMB (in) "Channel B differential analog input (negative)", 24 INPB (in) "Channel B differential analog input (positive)", 28 D0B (LSB) (hiz) "Channel B parallel data", 29 D1B (hiz) "Channel B parallel data", 30 D2B (hiz) "Channel B parallel data", 31 D3B (hiz) "Channel B parallel data", 32 D4B (hiz) "Channel B parallel data", 35 D5B (hiz) "Channel B parallel data", 36 D6B (hiz) "Channel B parallel data", 37 D7B (hiz) "Channel B parallel data", 38 D8B (hiz) "Channel B parallel data", 39 D9B (hiz) "Channel B parallel data", 40 D10B (hiz) "Channel B parallel data", 43 D11B (hiz) "Channel B parallel data", 44 D12B (hiz) "Channel B parallel data", 45 D13B (MSB) (hiz) "Channel B parallel data", 46 OVRB (out) "Channel B over-range indicator bit", 47 CLKOUTB (out) "Channel B clock out in sync with data", 48 OEB (in) "Channel B output enable (active high)", 50 PDN (in) "Power down active high. See Table 2", 51 REFSEL (in) "Reference select. 1-EXT. REF; 0-INT. REF", 52 OEA (in) "Channel A output enable (active high)", 53 CLKOUTA (out) "Channel A clock out in sync with data", 54 D0A (LSB) (hiz) "Channel A parallel data", 55 D1A (hiz) "Channel A parallel data", 56 D2A (hiz) "Channel A parallel data", 59 D3A (hiz) "Channel A parallel data", 60 D4A (hiz) "Channel A parallel data", 61 D5A (hiz) "Channel A parallel data", 62 D6A (hiz) "Channel A parallel data", 63 D7A (hiz) "Channel A parallel data", 64 D8A (hiz) "Channel A parallel data", 67 D9A (hiz) "Channel A parallel data", 68 D10A (hiz) "Channel A parallel data", 69 D11A (hiz) "Channel A parallel data", 70 D12A (hiz) "Channel A parallel data", 71 D13A (MSB) (hiz) "Channel A parallel data", 72 OVRA (out) "Channel A over-range indicator bit", 77 INMA (in) "Channel A differential analog input (negative)", 78 INPA (in) "Channel A differential analog input (positive)"
part B pins: 2 AGND (power) "Analog ground", 5 AGND (power) "Analog ground", 8 AVDD (power) "Analog power supply", 9 AVDD (power) "Analog power supply", 11 AVDD (power) "Analog power supply", 12 AGND (power) "Analog ground", 13 AVDD (power) "Analog power supply", 16 AGND (power) "Analog ground", 19 AGND (power) "Analog ground", 21 AVDD (power) "Analog power supply", 22 AGND (power) "Analog ground", 25 AGND (power) "Analog ground", 26 AVDD (power) "Analog power supply", 27 AVDD (power) "Analog power supply", 33 DRGND (power) "Output driver ground", 34 DRVDD (power) "Output driver power supply", 41 DRGND (power) "Output driver ground", 42 DRVDD (power) "Output driver power supply", 49 DRVDD (power) "Output driver power supply", 57 DRVDD (power) "Output driver power supply", 58 DRGND (power) "Output driver ground", 65 DRVDD (power) "Output driver power supply", 66 DRGND (power) "Output driver ground", 73 AVDD (power) "Analog power supply", 74 AGND (power) "Analog ground", 75 AVDD (power) "Analog power supply", 76 AGND (power) "Analog ground", 79 AGND (power) "Analog ground", 80 AVDD (power) "Analog power supply", 81 EP

## ADS5553IPFPR
designator U?
Dual-Channel 14-Bit, 65 MSPS ADC, -40 to 85 degC, 80-pin QFP (PFP80), Green (RoHS & no Sb/Br); Manufacturer: Texas Instruments; PartNumber: ADS5553IPFPR; # Input Channels: 2; Analog Voltage AV/DD(Max)(V): 3.6; Analog Voltage AV/DD(Min)(V): 3; Architecture: Pipeline; ENOB(Bits): 11.9; INL(Max)(+/-LSB): 4; Interface: Parallel CMOS, Serial SPI Interface; Resolution(Bits): 14; Sample Rate (max)(SPS): 65M; SFDR(dB): 84; SINAD(dB): 73.4; SNR(dB): 74; SubFamily: High Speed ADC (>10MSPS); DatasheetVersion: SLWS158; PackageVersion: 4146925/C, 07/2011; PackageReference: PFP80-6825X6825TP; PackageDescription: 80-Pin PowerPAD(TM) Plastic Quad Flatpack, Body 12 x 12 mm, Pitch 0.5 mm; Supplier 1: Digi-Key; Supplier Part Number 1: ADS7891IPFBTG4-ND; Supplier 2: Newark; Supplier Part Number 2: 53K9162; Supplier 3: Mouser; Supplier Part Number 3: 595-ADS7891IPFBTG4; Digital Supply(Max)(V): 3.6; Digital Supply(Min)(V): 3; Eco-Plan: Green (RoHS & no Sb/Br); Mounting Technology: Surface Mount; Code_JEDEC: MS-026; ComponentLink1Description: Manufacturer URL; ComponentLink1URL: http://www.ti.com/; ComponentLink2Description: Datasheet; ComponentLink2URL: http://www.ti.com/general/docs/lit/getliterature.tsp?genericPartNumber=ADS5553&fileType=pdf; ComponentLink3Description: Package Specification; ComponentLink3URL: http://www.ti.com/litv/pdf/mpqf049b
footprint TI-PFP80-6825X6825TP_N (QFP, 80-Leads, Body 12x12mm, Pitch 0.5mm, Thermal Pad 7.5x7.5mm, IPC Medium Density)
footprint TI-PFP80-6825X6825TP_L (QFP, 80-Leads, Body 12x12mm, Pitch 0.5mm, Thermal Pad 7.5x7.5mm, IPC High Density)
footprint TI-PFP80-6825X6825TP_M (QFP, 80-Leads, Body 12x12mm, Pitch 0.5mm, Thermal Pad 7.5x7.5mm, IPC Low Density)
part A pins: 1 CMA (out) "Channel A common-mode output voltage", 3 CLKPA (in) "Channel A differential input clock (positive)", 4 CLKMA (in) "Channel A differential input clock (negative)", 6 REFMA "Channel A reference voltage (negative); 0.1 uF to GND", 7 REFPA "Channel A reference voltage (positive); 0.1 uF to GND", 10 IREF (in) "Current set, 56-kohm resistor to GND", 14 REFMB "Channel B reference voltage (negative); 0.1 uF to GND", 15 REFPB "Channel B reference voltage (positive); 0.1 uF to GND", 17 CLKPB (in) "Channel B differential input clock (positive)", 18 CLKMB (in) "Channel B differential input clock (negative)", 20 CMB (out) "Channel B common-mode output voltage", 23 INMB (in) "Channel B differential analog input (negative)", 24 INPB (in) "Channel B differential analog input (positive)", 28 D0B (LSB) (hiz) "Channel B parallel data", 29 D1B (hiz) "Channel B parallel data", 30 D2B (hiz) "Channel B parallel data", 31 D3B (hiz) "Channel B parallel data", 32 D4B (hiz) "Channel B parallel data", 35 D5B (hiz) "Channel B parallel data", 36 D6B (hiz) "Channel B parallel data", 37 D7B (hiz) "Channel B parallel data", 38 D8B (hiz) "Channel B parallel data", 39 D9B (hiz) "Channel B parallel data", 40 D10B (hiz) "Channel B parallel data", 43 D11B (hiz) "Channel B parallel data", 44 D12B (hiz) "Channel B parallel data", 45 D13B (MSB) (hiz) "Channel B parallel data", 46 OVRB (out) "Channel B over-range indicator bit", 47 CLKOUTB (out) "Channel B clock out in sync with data", 48 OEB (in) "Channel B output enable (active high)", 50 PDN (in) "Power down active high. See Table 2", 51 REFSEL (in) "Reference select. 1-EXT. REF; 0-INT. REF", 52 OEA (in) "Channel A output enable (active high)", 53 CLKOUTA (out) "Channel A clock out in sync with data", 54 D0A (LSB) (hiz) "Channel A parallel data", 55 D1A (hiz) "Channel A parallel data", 56 D2A (hiz) "Channel A parallel data", 59 D3A (hiz) "Channel A parallel data", 60 D4A (hiz) "Channel A parallel data", 61 D5A (hiz) "Channel A parallel data", 62 D6A (hiz) "Channel A parallel data", 63 D7A (hiz) "Channel A parallel data", 64 D8A (hiz) "Channel A parallel data", 67 D9A (hiz) "Channel A parallel data", 68 D10A (hiz) "Channel A parallel data", 69 D11A (hiz) "Channel A parallel data", 70 D12A (hiz) "Channel A parallel data", 71 D13A (MSB) (hiz) "Channel A parallel data", 72 OVRA (out) "Channel A over-range indicator bit", 77 INMA (in) "Channel A differential analog input (negative)", 78 INPA (in) "Channel A differential analog input (positive)"
part B pins: 2 AGND (power) "Analog ground", 5 AGND (power) "Analog ground", 8 AVDD (power) "Analog power supply", 9 AVDD (power) "Analog power supply", 11 AVDD (power) "Analog power supply", 12 AGND (power) "Analog ground", 13 AVDD (power) "Analog power supply", 16 AGND (power) "Analog ground", 19 AGND (power) "Analog ground", 21 AVDD (power) "Analog power supply", 22 AGND (power) "Analog ground", 25 AGND (power) "Analog ground", 26 AVDD (power) "Analog power supply", 27 AVDD (power) "Analog power supply", 33 DRGND (power) "Output driver ground", 34 DRVDD (power) "Output driver power supply", 41 DRGND (power) "Output driver ground", 42 DRVDD (power) "Output driver power supply", 49 DRVDD (power) "Output driver power supply", 57 DRVDD (power) "Output driver power supply", 58 DRGND (power) "Output driver ground", 65 DRVDD (power) "Output driver power supply", 66 DRGND (power) "Output driver ground", 73 AVDD (power) "Analog power supply", 74 AGND (power) "Analog ground", 75 AVDD (power) "Analog power supply", 76 AGND (power) "Analog ground", 79 AGND (power) "Analog ground", 80 AVDD (power) "Analog power supply", 81 EP

## ADS5553IPFPRG4
designator U?
Dual-Channel 14-Bit, 65 MSPS ADC, -40 to 85 degC, 80-pin QFP (PFP80), Green (RoHS & no Sb/Br); Manufacturer: Texas Instruments; PartNumber: ADS5553IPFPRG4; # Input Channels: 2; Analog Voltage AV/DD(Max)(V): 3.6; Analog Voltage AV/DD(Min)(V): 3; Architecture: Pipeline; ENOB(Bits): 11.9; INL(Max)(+/-LSB): 4; Interface: Parallel CMOS, Serial SPI Interface; Resolution(Bits): 14; Sample Rate (max)(SPS): 65M; SFDR(dB): 84; SINAD(dB): 73.4; SNR(dB): 74; SubFamily: High Speed ADC (>10MSPS); DatasheetVersion: SLWS158; PackageVersion: 4146925/C, 07/2011; PackageReference: PFP80-6825X6825TP; PackageDescription: 80-Pin PowerPAD(TM) Plastic Quad Flatpack, Body 12 x 12 mm, Pitch 0.5 mm; Supplier 1: Digi-Key; Supplier Part Number 1: 296-16681-2-ND; Supplier 2: Digi-Key; Supplier Part Number 2: 296-16681-1-ND; Supplier 3: Digi-Key; Supplier Part Number 3: 296-16681-6-ND; Supplier 4: Newark; Supplier Part Number 4: 90H0475; Supplier 5: Mouser; Supplier Part Number 5: 595-ADS7890IPFBT; Digital Supply(Max)(V): 3.6; Digital Supply(Min)(V): 3; Eco-Plan: Green (RoHS & no Sb/Br); Mounting Technology: Surface Mount; Code_JEDEC: MS-026; ComponentLink1Description: Manufacturer URL; ComponentLink1URL: http://www.ti.com/; ComponentLink2Description: Datasheet; ComponentLink2URL: http://www.ti.com/general/docs/lit/getliterature.tsp?genericPartNumber=ADS5553&fileType=pdf; ComponentLink3Description: Package Specification; ComponentLink3URL: http://www.ti.com/litv/pdf/mpqf049b
footprint TI-PFP80-6825X6825TP_N (QFP, 80-Leads, Body 12x12mm, Pitch 0.5mm, Thermal Pad 7.5x7.5mm, IPC Medium Density)
footprint TI-PFP80-6825X6825TP_L (QFP, 80-Leads, Body 12x12mm, Pitch 0.5mm, Thermal Pad 7.5x7.5mm, IPC High Density)
footprint TI-PFP80-6825X6825TP_M (QFP, 80-Leads, Body 12x12mm, Pitch 0.5mm, Thermal Pad 7.5x7.5mm, IPC Low Density)
part A pins: 1 CMA (out) "Channel A common-mode output voltage", 3 CLKPA (in) "Channel A differential input clock (positive)", 4 CLKMA (in) "Channel A differential input clock (negative)", 6 REFMA "Channel A reference voltage (negative); 0.1 uF to GND", 7 REFPA "Channel A reference voltage (positive); 0.1 uF to GND", 10 IREF (in) "Current set, 56-kohm resistor to GND", 14 REFMB "Channel B reference voltage (negative); 0.1 uF to GND", 15 REFPB "Channel B reference voltage (positive); 0.1 uF to GND", 17 CLKPB (in) "Channel B differential input clock (positive)", 18 CLKMB (in) "Channel B differential input clock (negative)", 20 CMB (out) "Channel B common-mode output voltage", 23 INMB (in) "Channel B differential analog input (negative)", 24 INPB (in) "Channel B differential analog input (positive)", 28 D0B (LSB) (hiz) "Channel B parallel data", 29 D1B (hiz) "Channel B parallel data", 30 D2B (hiz) "Channel B parallel data", 31 D3B (hiz) "Channel B parallel data", 32 D4B (hiz) "Channel B parallel data", 35 D5B (hiz) "Channel B parallel data", 36 D6B (hiz) "Channel B parallel data", 37 D7B (hiz) "Channel B parallel data", 38 D8B (hiz) "Channel B parallel data", 39 D9B (hiz) "Channel B parallel data", 40 D10B (hiz) "Channel B parallel data", 43 D11B (hiz) "Channel B parallel data", 44 D12B (hiz) "Channel B parallel data", 45 D13B (MSB) (hiz) "Channel B parallel data", 46 OVRB (out) "Channel B over-range indicator bit", 47 CLKOUTB (out) "Channel B clock out in sync with data", 48 OEB (in) "Channel B output enable (active high)", 50 PDN (in) "Power down active high. See Table 2", 51 REFSEL (in) "Reference select. 1-EXT. REF; 0-INT. REF", 52 OEA (in) "Channel A output enable (active high)", 53 CLKOUTA (out) "Channel A clock out in sync with data", 54 D0A (LSB) (hiz) "Channel A parallel data", 55 D1A (hiz) "Channel A parallel data", 56 D2A (hiz) "Channel A parallel data", 59 D3A (hiz) "Channel A parallel data", 60 D4A (hiz) "Channel A parallel data", 61 D5A (hiz) "Channel A parallel data", 62 D6A (hiz) "Channel A parallel data", 63 D7A (hiz) "Channel A parallel data", 64 D8A (hiz) "Channel A parallel data", 67 D9A (hiz) "Channel A parallel data", 68 D10A (hiz) "Channel A parallel data", 69 D11A (hiz) "Channel A parallel data", 70 D12A (hiz) "Channel A parallel data", 71 D13A (MSB) (hiz) "Channel A parallel data", 72 OVRA (out) "Channel A over-range indicator bit", 77 INMA (in) "Channel A differential analog input (negative)", 78 INPA (in) "Channel A differential analog input (positive)"
part B pins: 2 AGND (power) "Analog ground", 5 AGND (power) "Analog ground", 8 AVDD (power) "Analog power supply", 9 AVDD (power) "Analog power supply", 11 AVDD (power) "Analog power supply", 12 AGND (power) "Analog ground", 13 AVDD (power) "Analog power supply", 16 AGND (power) "Analog ground", 19 AGND (power) "Analog ground", 21 AVDD (power) "Analog power supply", 22 AGND (power) "Analog ground", 25 AGND (power) "Analog ground", 26 AVDD (power) "Analog power supply", 27 AVDD (power) "Analog power supply", 33 DRGND (power) "Output driver ground", 34 DRVDD (power) "Output driver power supply", 41 DRGND (power) "Output driver ground", 42 DRVDD (power) "Output driver power supply", 49 DRVDD (power) "Output driver power supply", 57 DRVDD (power) "Output driver power supply", 58 DRGND (power) "Output driver ground", 65 DRVDD (power) "Output driver power supply", 66 DRGND (power) "Output driver ground", 73 AVDD (power) "Analog power supply", 74 AGND (power) "Analog ground", 75 AVDD (power) "Analog power supply", 76 AGND (power) "Analog ground", 79 AGND (power) "Analog ground", 80 AVDD (power) "Analog power supply", 81 EP

## ADS5562IRGZ25
designator U?
16-Bit 80 MSPS Low Power ADC with Selectable LVDS / CMOS Output, -40 to 85 degC, 48-pin QFN (RGZ48), Green (RoHS & no Sb/Br); Manufacturer: Texas Instruments; PartNumber: ADS5562IRGZ25; # Input Channels: 1; Analog Voltage AV/DD(Max)(V): 3.6; Analog Voltage AV/DD(Min)(V): 3; Architecture: Pipeline; ENOB(Bits): 13.1; INL(Max)(+/-LSB): 8.5; Interface: Parallel LVDS,Serial SPI Interface; Resolution(Bits): 16; Sample Rate (max)(SPS): 80M; SFDR(dB): 85; SINAD(dB): 80.5; SNR(dB): 84; SubFamily: High Speed ADC (>10MSPS); DatasheetVersion: SLWS207A; PackageVersion: 4204101/F, 06/2011; PackageReference: RGZ48-5150X5150TP; PackageDescription: 48-Pin Plastic Flat Pack, Body 7 x 7 mm, Pitch 0.5 mm; Supplier 1: Digi-Key; Supplier Part Number 1: ADS7890IPFBTG4-ND; Supplier 2: Mouser; Supplier Part Number 2: 595-ADS7890IPFBTG4; Digital Supply(Max)(V): 3.6; Digital Supply(Min)(V): 3; Eco-Plan: Green (RoHS & no Sb/Br); Mounting Technology: Surface Mount; Code_JEDEC: MO-220; ComponentLink1Description: Manufacturer URL; ComponentLink1URL: http://www.ti.com/; ComponentLink2Description: Datasheet; ComponentLink2URL: http://www.ti.com/general/docs/lit/getliterature.tsp?genericPartNumber=ADS5562&fileType=pdf; ComponentLink3Description: Package Specification; ComponentLink3URL: http://www.ti.com/lit/ml/mpqf123e/mpqf123e.pdf
footprint TI-RGZ48-5150X5150TP_V (QFN, 48-Leads, Body 7x7mm, Pitch 0.5mm, Thermal Pad 5.15x5.15mm, TI Recommended)
part A pins: 3 OVR (out) "Out-of-range indicator, CMOS level signal", 15 INP (in) "Differential analog input", 16 INM (in) "Differential analog input", 31 D0/D0_D1_M (hiz), 32 D1/D0_D1_P (hiz), 33 D2/D2_D3_M (hiz), 34 D3/D2_D3_P (hiz), 37 D4/D4_D5_M (hiz), 38 D5/D4_D5_P (hiz), 39 D6/D6_D7_M (hiz), 40 D7/D6_D7_P (hiz), 41 D8/D8_D9_M (hiz), 42 D9/D8_D9_P (hiz), 43 D10/D10_D11_M (hiz), 44 D11/D10_D11_P (hiz), 45 D12/D12_D13_M (hiz), 46 D13/D12_D13_P (hiz), 47 D14/D14_D15_M (hiz), 48 D15/D14_D15_P (hiz)
part B pins: 4 UNUSED/CLKOUTM (out), 5 CLKOUT/CLKOUTP (out), 6 DFS (in) "Data Format Select input. This pin sets the DATA FORMAT (Twos complement or Offset binary) and the LVDS/CMOS output mode type. See Table 8 for detailed information. The pin has an internal 100-kohm pull-down resistor to (See Datasheet)", 7 OE (in) "Output buffer enable input, active high. The pin has an internal 100-kohm pull-up resistor to DRVDD.", 10 CLKP (in) "Differential clock input", 11 CLKM (in) "Differential clock input", 13 VCM (io) "Internal reference mode - Common-mode voltage output. External reference mode - Reference input. The voltage forced on this pin sets the internal references.", 21 NC "Do not connect", 23 MODE (in) "Mode select input. This pin selects the Internal or External reference mode. See Table 9 for detailed information. The pin has an internal 100-kohm pull-down resistor to AGND.", 27 SEN (in) "This pin functions as serial interface enable input when RESET is low. It functions as CLKOUT edge programmability when RESET is tied high. See Table 7 for detailed information. The pin has an internal 100-kohm pull-up (See Datasheet)", 28 SDATA (in) "This pin functions as serial interface data input when RESET is low. It functions as STANDBY control pin when RESET is tied high.See Table 6 for detailed information.The pin has an internal 100-kohm pull-down resistor to (See Datasheet)", 29 SCLK (in) "This pin functions as serial interface clock input when RESET is low. It functions as LOW SPEED MODE control when RESET is tied high.", 30 RESET (in) "Serial interface reset input. When using the serial interface, the user should apply a high-going pulse onthis pin to reset the internal registers. When the serial interface is not used, the user should tie RESET permanently (See Datasheet)"
part C pins: 1 DRGND (power) "Digital and output buffer ground", 2 DRVDD (power) "Digital and output buffer supply", 8 AVDD (power) "Analog power supply", 9 AGND (power) "Analog ground", 12 AGND (power) "Analog ground", 14 AGND (power) "Analog ground", 17 AGND (power) "Analog ground", 18 AVDD (power) "Analog power supply", 19 AGND (power) "Analog ground", 20 AVDD (power) "Analog power supply", 22 AVDD (power) "Analog power supply", 24 AVDD (power) "Analog power supply", 25 AGND (power) "Analog ground", 26 AVDD (power) "Analog power supply", 35 DRVDD (power) "Digital and output buffer supply", 36 DRGND (power) "Digital and output buffer ground", 49 EP (power) "Connect the PAD to the ground plane. See in application section."